# Altium schematic symbol library DC, AC, SMPS Boards.SchLib: 1 symbol
Pins are listed as number, name and electrical type; pins without a type are passive.

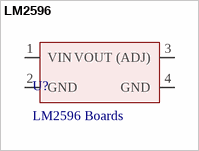
[diagram p0: symbol LM2596]

## LM2596
designator U?, comment LM2596 Boards
Conv DC-DC 4.5V to 40V Inv/Step Down Single-Out 1.2V to 37V 3A 6-Pin(5+Tab) TO-263 Tube; Manufacturer: TI National Semiconductor; Manufacturer Part Number: LM2596S-ADJ/NOPB; Number of Outputs: 1; Switching Frequency: 173kHz; Output Type: Adjustable; Quiescent Current: 5mA; Efficiency: 73%; Number of Channels: 1NUMBER; Max Duty Cycle: 100%; Designed: Ferdi; Supplier 1: Mouser; RoHS: Yes; Category: Voltage Regulators - Switching; Stock 1: 3646; Pricing 1: 1=6,95, 10=6,28, 50=5,98, 100=5,2, 1000=4,53, 10000=3,94 (USD); Mount: Surface Mount; Case/Package: TO-263; Number of Pins: 5; Weight: 0.056128oz; Min Operating Temperature: -40°C; Max Operating Temperature: 125°C; Output Voltage: 37V; Min Input Voltage: 4.5V; Packaging: Rail/Tube; Output Current: 3A; Series: LM2596; Max Input Voltage: 40V; Min Output Voltage: 1.2V; Max Output Current: 3A; Operating Supply Voltage: 40V; Max Output Voltage: 37V; Length: 10.16mm; Width: 8.64mm; Height: 4.57mm; Thickness: 4.58mm; Radiation Hardening: No; Lead Free: Contains Lead; RoHS Compliant: Yes; Reach SVHC Compliant: No; Supplier Part Number 1: 926-LM2596S-ADJ/NOPB
footprint LM2596
pins: 1 VIN, 2 GND, 3 VOUT (ADJ), 4 GND